# EAGLE library part 53015-06 (library OSSI)
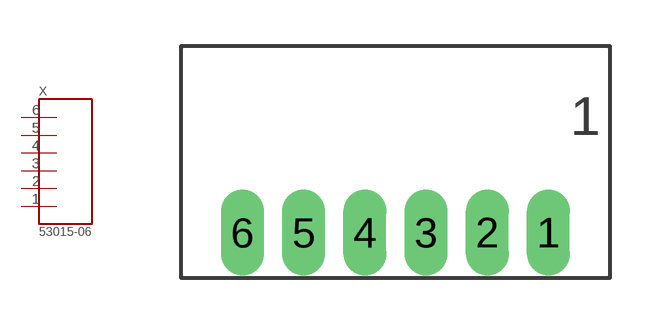
[diagram p59: symbol with the pads of 53015-06; footprint 53015-06]

Designator prefix X

## 53015-06  [53015-06]
1  1
2  2
3  3
4  4
5  5
6  6

## Footprint 53015-06 (pad centres in mm)
drill 0.9 long: 1 5,0; 2 3,0; 3 1,0; 4 -1,0; 5 -3,0; 6 -5,0